# EAGLE library part LTC3212 (library PowerProducts)
LT-Spice library generated with : ltspice.ulp from: D:/Program Files (x86)/LTC/LTspiceIV/lib/sym/PowerProducts/LTC3214*.asy at 07.10.2012 17:52:18
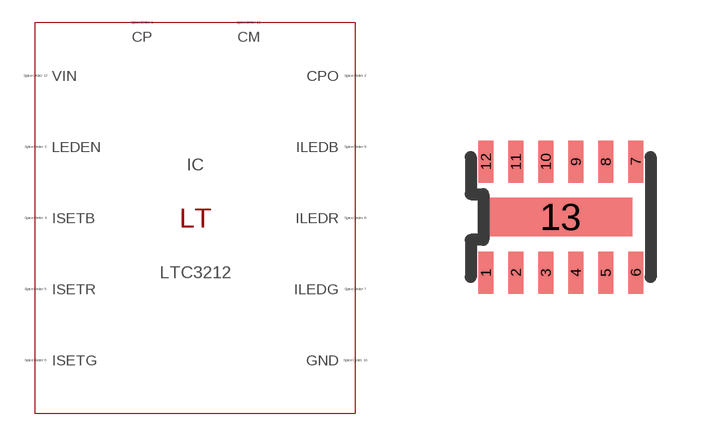
[diagram p139: symbol with the pads of DFN12(DDB); footprint DFN12(DDB)]

Designator prefix IC

## LTC3212 (SPICEMODEL: LTC3212.sub; SPICEPREFIX: X; VALUE2: LTC3212)  [DFN12(DDB)]
1  CP  pas
2  CPO  pas
3  LEDEN  pas
4  ISETB  pas
5  ISETR  pas
6  ISETG  pas
7  ILEDG  pas
8  ILEDR  pas
9  ILEDB  pas
10  GND  pas
11  CM  pas
12  VIN  pas
13  GND  pas

## Footprint DFN12(DDB) (pad centres in mm)
Package generated from: DFN12(DDB).asc (!PADS-POWERPCB-V5.0-BASIC! DESIGN DATABASE ASCII FILE 1.0) with :import-pads-powerpcb-v5.ulp Version 1.0.1 at 04.10.2012 14:11:16
smd 0.375 x 1.05: 1 -1.875,-1.387; 2 -1.125,-1.387; 3 -0.375,-1.387; 4 0.375,-1.387; 5 1.125,-1.387; 6 1.875,-1.387; 7 1.875,1.387; 8 1.125,1.387; 9 0.375,1.387; 10 -0.375,1.387; 11 -1.125,1.387; 12 -1.875,1.387
smd 3.585 x 0.96: 13 0,0